# EAGLE library part UDA1355 (library 0_UDA1355H-philips)
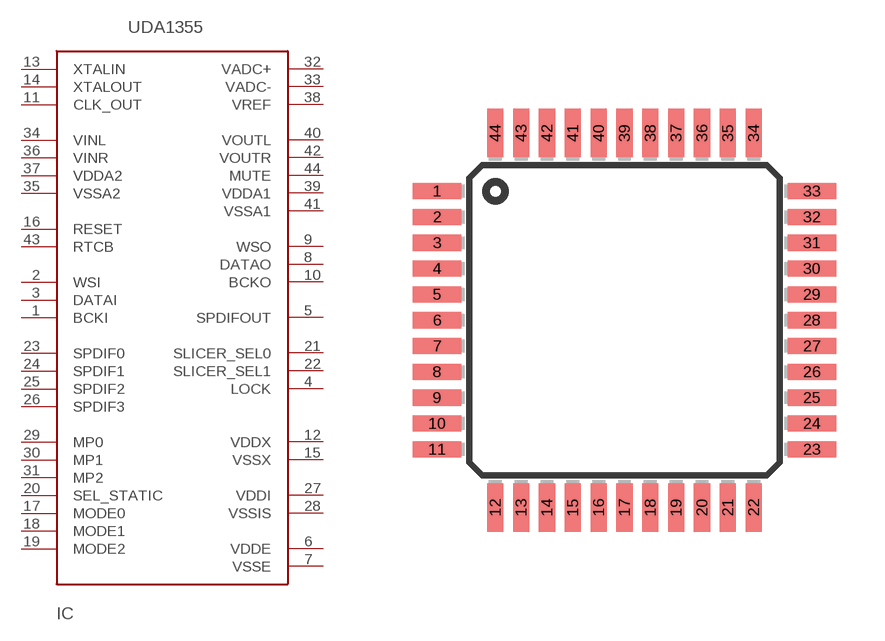
[diagram p0: symbol with the pads of TQFP44; footprint TQFP44]

Designator prefix IC

## UDA1355H  [TQFP44]
1  BCKI  in
2  WSI  in
3  DATAI  in
4  LOCK  out
5  SPDIFOUT  out
6  VDDE  sup
7  VSSE  sup
8  DATAO  out
9  WSO  out
10  BCKO  out
11  CLK_OUT  out
12  VDDX  sup
13  XTALIN  pas
14  XTALOUT  pas
15  VSSX  sup
16  RESET  in
17  MODE0  in
18  MODE1
19  MODE2
20  SEL_STATIC  in
21  SLICER_SEL0
22  SLICER_SEL1
23  SPDIF0  in
24  SPDIF1  in
25  SPDIF2  in
26  SPDIF3  in
27  VDDI  sup
28  VSSIS  sup
29  MP0  in
30  MP1  in
31  MP2
32  VADC+  pas
33  VADC-  pas
34  VINL  pas
35  VSSA2  sup
36  VINR  pas
37  VDDA2  sup
38  VREF  pas
39  VDDA1  sup
40  VOUTL  out
41  VSSA1  sup
42  VOUTR  out
43  RTCB  in
44  MUTE  in

## Footprint TQFP44 (pad centres in mm)
Thin Plasic Quad Flat Package
smd 1.5 x 0.5: 1 -5.8,4; 2 -5.8,3.2; 3 -5.8,2.4; 4 -5.8,1.6; 5 -5.8,0.8; 6 -5.8,0; 7 -5.8,-0.8; 8 -5.8,-1.6; 9 -5.8,-2.4; 10 -5.8,-3.2; 11 -5.8,-4; 23 5.8,-4; 24 5.8,-3.2; 25 5.8,-2.4; 26 5.8,-1.6; 27 5.8,-0.8; 28 5.8,0; 29 5.8,0.8; 30 5.8,1.6; 31 5.8,2.4; 32 5.8,3.2; 33 5.8,4
smd 0.5 x 1.5: 12 -4,-5.8; 13 -3.2,-5.8; 14 -2.4,-5.8; 15 -1.6,-5.8; 16 -0.8,-5.8; 17 0,-5.8; 18 0.8,-5.8; 19 1.6,-5.8; 20 2.4,-5.8; 21 3.2,-5.8; 22 4,-5.8; 34 4,5.8; 35 3.2,5.8; 36 2.4,5.8; 37 1.6,5.8; 38 0.8,5.8; 39 0,5.8; 40 -0.8,5.8; 41 -1.6,5.8; 42 -2.4,5.8; 43 -3.2,5.8; 44 -4,5.8